# EAGLE library part LTC3419*? (library ic-LT)
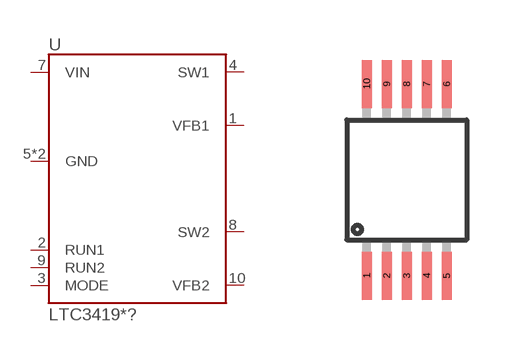
[diagram p14: symbol with the pads of MSOP10; footprint MSOP10]

Designator prefix U

## LTC3419EMS, LTC3419IMS  [MSOP10]
1  VFB1
2  RUN1
3  MODE
4  SW1
5  GND
6  GND
7  VIN
8  SW2
9  RUN2
10  VFB2

## Footprint MSOP10 (pad centres in mm)
smd 0.25 x 1.2: 1 -1,-2.4; 2 -0.5,-2.4; 3 0,-2.4; 4 0.5,-2.4; 5 1,-2.4; 6 1,2.4; 7 0.5,2.4; 8 0,2.4; 9 -0.5,2.4; 10 -1,2.4